# Altium footprint library TranFet.PcbLib: 11 footprints
Each footprint in its own frame and in the unit in brackets; x right, y up, seen from the top. Pads: shape width x height; smd on the part's side, far side on the other; paste and mask are expansions set on the pad; w line width, h text height; cw(c..) or ccw(c..) is an arc to the next point about the centre after c.
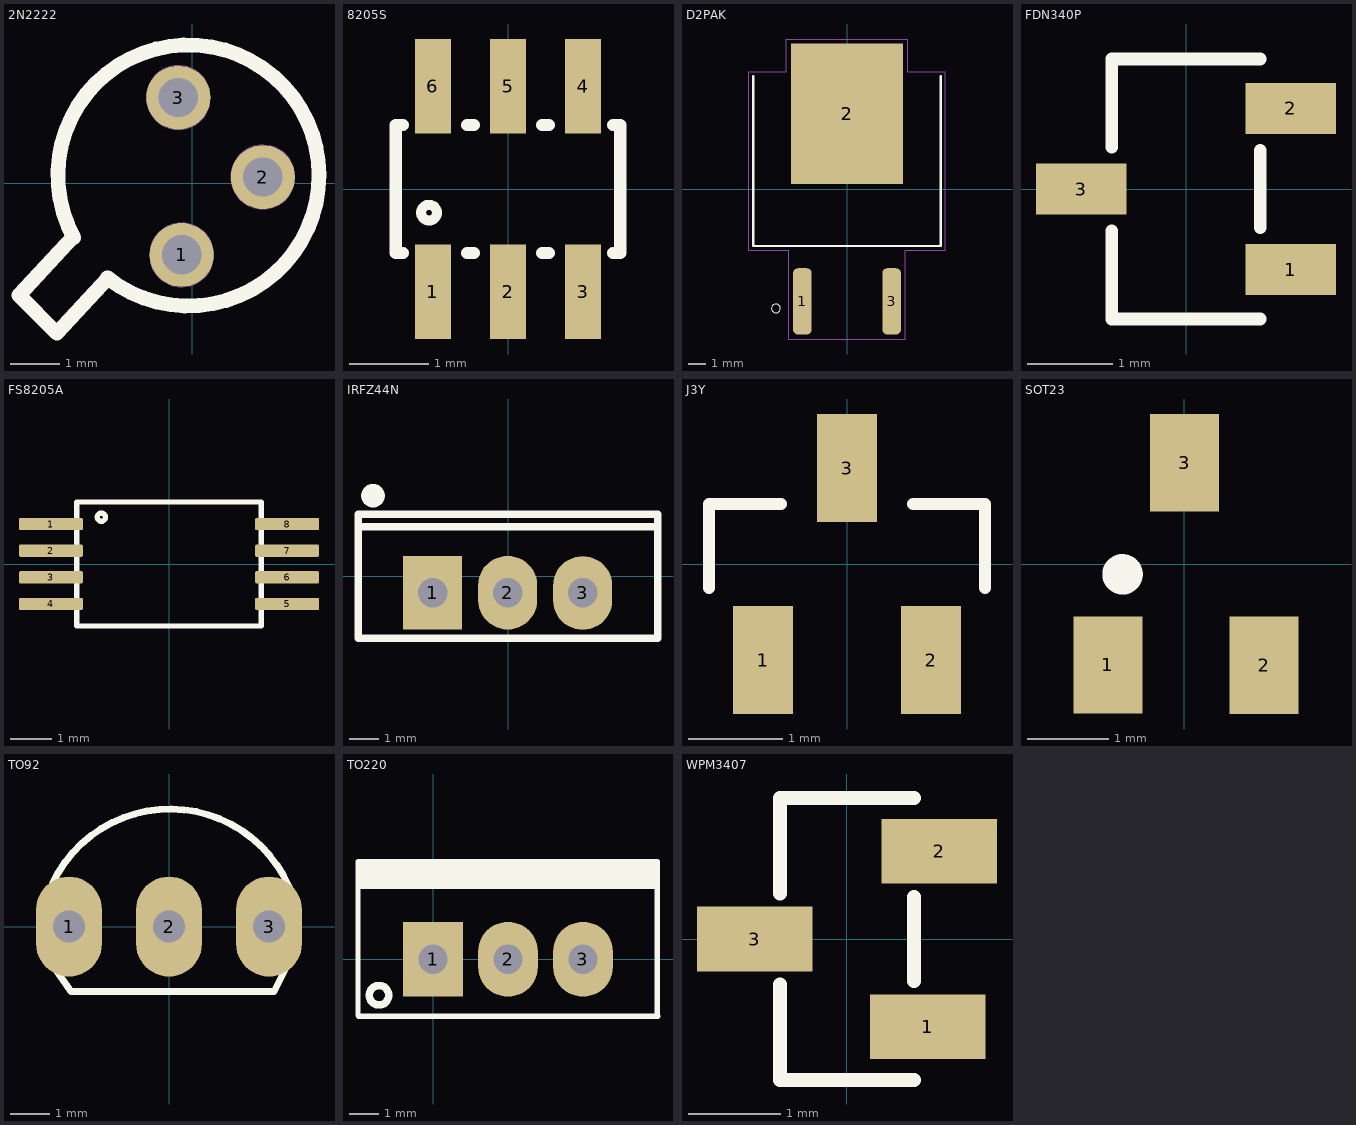
[diagram p0: the footprints below, top view; thin cyan lines are the x and y axes]

## 2N2222 [mm] "NPN switching transistor in a TO-18 metal package."
pads (3):
  round 1.3 hole 0.8 mask+0.1: 1(-0.218,-1.458) 2(1.43,0.123) 3(-0.286,1.737)
Top Overlay:
  lines w0.3: -2.427,-1.093 -3.52,-2.275 -2.75,-3.045 -1.718,-1.929 ; -2.408,-1.111 cw(c-0.08,0.155) -1.725,-1.923
Mechanical 2:
  circle w0: c1.43,0.123 r0.65
  circle w0: c-0.218,-1.458 r0.65
  circle w0: c-0.286,1.737 r0.65
  lines w0.05: -2.427,-1.093 -3.52,-2.275 -2.75,-3.045 -1.718,-1.929 ; -2.42,-1.089 cw(c-0.08,0.155) -1.718,-1.928
  text "1" at -0.444,-1.716 h1
  text "2" at 1.229,-0.146 h1
  text "3" at -0.531,1.461 h1
3D body "User Library-TO-18-3.STEP": height 8.33, standoff -7, extent -3.592,-3.121 2.65,3.121

## 8205S [mm] "SOT-23-6"
pads (6):
  rect 0.45x1.2 smd: 1(-0.95,-1.3) 2(0,-1.3) 3(0.95,-1.3) 4(0.95,1.3) 5(0,1.3) 6(-0.95,1.3)
Top Overlay:
  circle w0.127: c-1,-0.3 r0.1
  lines w0.152: -1.328,-0.81 -1.422,-0.81 -1.422,0.81 -1.328,0.81 ; -0.522,-0.81 -0.428,-0.81 ; -0.522,0.81 -0.428,0.81 ; 0.428,-0.81 0.522,-0.81 ; 0.428,0.81 0.522,0.81 ; 1.328,-0.81 1.422,-0.81 1.422,0.81 1.328,0.81
3D body "step_temp.STEP": height 1.45, standoff 0, extent -1.45,-1.4 1.45,1.4

## D2PAK [mm]
pads (3):
  rrect53% 1.06x3.78 smd: 1(-2.54,-6.4) 3(2.54,-6.4)
  rect 6.39x8 smd paste-5 mask+0: 2(0,4.29)
Top Overlay:
  circle w0: c-4.05,-6.8 r0.25
  lines w0.12: -5.34,6.42 -5.34,-3.24 5.32,-3.24 ; 5.34,-3.24 5.34,6.42
Top Paste:
  region: 0.8,8.15 -1.111,8.15 -1.111,8.194 0.8,8.194
  region: 0.8,4.435 -1.126,4.435 -1.126,5.4 0.8,5.4
  region: 3.05,4.412 2.031,4.412 2.031,5.4 3.05,5.4
  region: 0.8,0.568 -1.138,0.568 -1.138,2.65 0.8,2.65
  region: 3.05,0.557 2.024,0.557 2.024,2.65 3.05,2.65
  region: -1.45,8.15 -4.242,8.15 -4.242,8.205 -1.45,8.205
  region: 3.05,8.15 2.036,8.15 2.036,8.286 3.05,8.286
Mechanical 15:
  lines w0.05: -5.59,-3.49 -5.59,6.67 -3.45,6.67 -3.45,8.54 3.45,8.54 3.45,6.67 5.59,6.67 5.59,-3.49 3.32,-3.49 3.32,-8.54 -3.32,-8.54 -3.32,-3.49 -5.59,-3.49
3D body "IRF3709SPBF.STEP": height 4.83, standoff -0.25, extent -5.08,-6.35 5.08,8.89

## FDN340P [mm] "SOT-23-3"
pads (3):
  rect 1.07x0.6 smd: 1(1.235,-0.95) 2(1.235,0.95) 3(-1.235,0)
Top Overlay:
  lines w0.152: -0.876,-0.495 -0.876,-1.536 0.876,-1.536 ; -0.876,0.495 -0.876,1.536 0.876,1.536 ; 0.876,-0.455 0.876,0.455
3D body "FDN340P.stp": height 0.96, standoff 0, extent -1.26,-1.463 1.26,1.457

## FS8205A [mm] "TSSOP-8"
pads (8):
  rrect25% 1.56x0.3 smd: 1(-2.88,0.975) 2(-2.88,0.325) 3(-2.88,-0.325) 4(-2.88,-0.975) 5(2.88,-0.975) 6(2.88,-0.325) 7(2.88,0.325) 8(2.88,0.975)
Top Overlay:
  circle w0.127: c-1.651,1.143 r0.1
  lines w0.127: -2.25,-1.515 2.25,-1.515 2.25,1.515 -2.25,1.515 -2.25,-1.515
3D body "FS8205A.STEP": height 1.2, standoff 0, extent -3.2,-1.465 3.2,1.465

## IRFZ44N [mm] "TO-220"
pads (3):
  rect 2x2.5 hole 1: 1(-2.549,-0.553)
  oval 2x2.5 hole 1: 2(-0.009,-0.553) 3(2.531,-0.563)
Top Overlay:
  lines w0.254: -5.08,1.683 5.08,1.683 ; -5.08,-2.095 -5.08,2.095 5.08,2.095 5.08,-2.095 -5.08,-2.095
  lines w0.4: -4.573,2.93 ccw(c-4.572,2.73) -4.571,2.93
3D body "IRFZ44N.step": height 19.37, standoff -13.52, extent -5.08,-2.039 5.08,2.166

## J3Y [mil] "SOT-23-3"
pads (3):
  rect 25x45 smd: 1(-35,-40) 2(35,-40) 3(0,40)
Top Overlay:
  lines w5: -57.5,-10 -57.5,25 -27.5,25 ; 27.5,25 57.5,25 57.5,-10
3D body "J3Y.STEP": height 49.21, standoff 0, extent -57.48,-41.65 57.48,51.65

## SOT23 [mm] "SOT 23 _ 1-3-2"
height 1.27
pads (3):
  rect 0.85x1.2 smd: 1(-0.94,-1.245) 2(0.985,-1.25) 3(0.005,1.25)
Top Overlay:
  circle w0.25: c-0.76,-0.127 r0.125
3D body "SW3DPS-SOT-23-DEFAULT.STEP": height 1.06, standoff -0.04, extent -1.475,-1.326 1.525,1.174

## TO92 [mil] "TO-92"
height 200
pads (3):
  oval 66x100 hole 32: 1(-100,0) 2(0,0) 3(100,0)
Top Overlay:
  lines w7: -116.52,43.21 cw(c0.97,-12.43) 119.94,39.97 ; -115.34,-40.24 -98,-65 105,-65 118,-39
3D body "SW3dPS-TO92.STEP": height 245.04, standoff -199.79, extent -108.87,-65.56 108.86,95

## TO220 [mil] "TO-220"
height 200
pads (3):
  rect 80x100 hole 39: 1(0,0)
  oval 80x100 hole 39: 2(100,0) 3(200,0)
Top Overlay:
  circle w10: c-72.03,-48 r12.97
  rectangle: -99,94 300,130
  lines w7: 298,107 299,93 ; -100,-75 -99,-76 -76,-76 300,-76 299,-75 299,130 -100,130 -100,-75
3D body "User Library-TO-220-1.STEP": height 322.83, standoff -810.24, extent -94.88,-80 294.88,97.17

## WPM3407 [mm] "SOT-23-3"
pads (3):
  rect 1.25x0.7 smd: 1(0.873,-0.95) 2(1,0.95) 3(-1,0)
Top Overlay:
  lines w0.152: -0.726,-0.495 -0.726,-1.526 0.726,-1.526 ; -0.726,0.495 -0.726,1.526 0.726,1.526 ; 0.726,-0.455 0.726,0.455
3D body "WPM3407.stp": height 1, standoff 0, extent -1.248,-1.491 1.202,1.513